# Altium footprint library Edge_logic_analyzer.PcbLib: 51 footprints (part 1 of 4)
Each footprint in its own frame and in the unit in brackets; x right, y up, seen from the top. Pads: shape width x height; smd on the part's side, far side on the other; paste and mask are expansions set on the pad; w line width, h text height; cw(c..) or ccw(c..) is an arc to the next point about the centre after c.
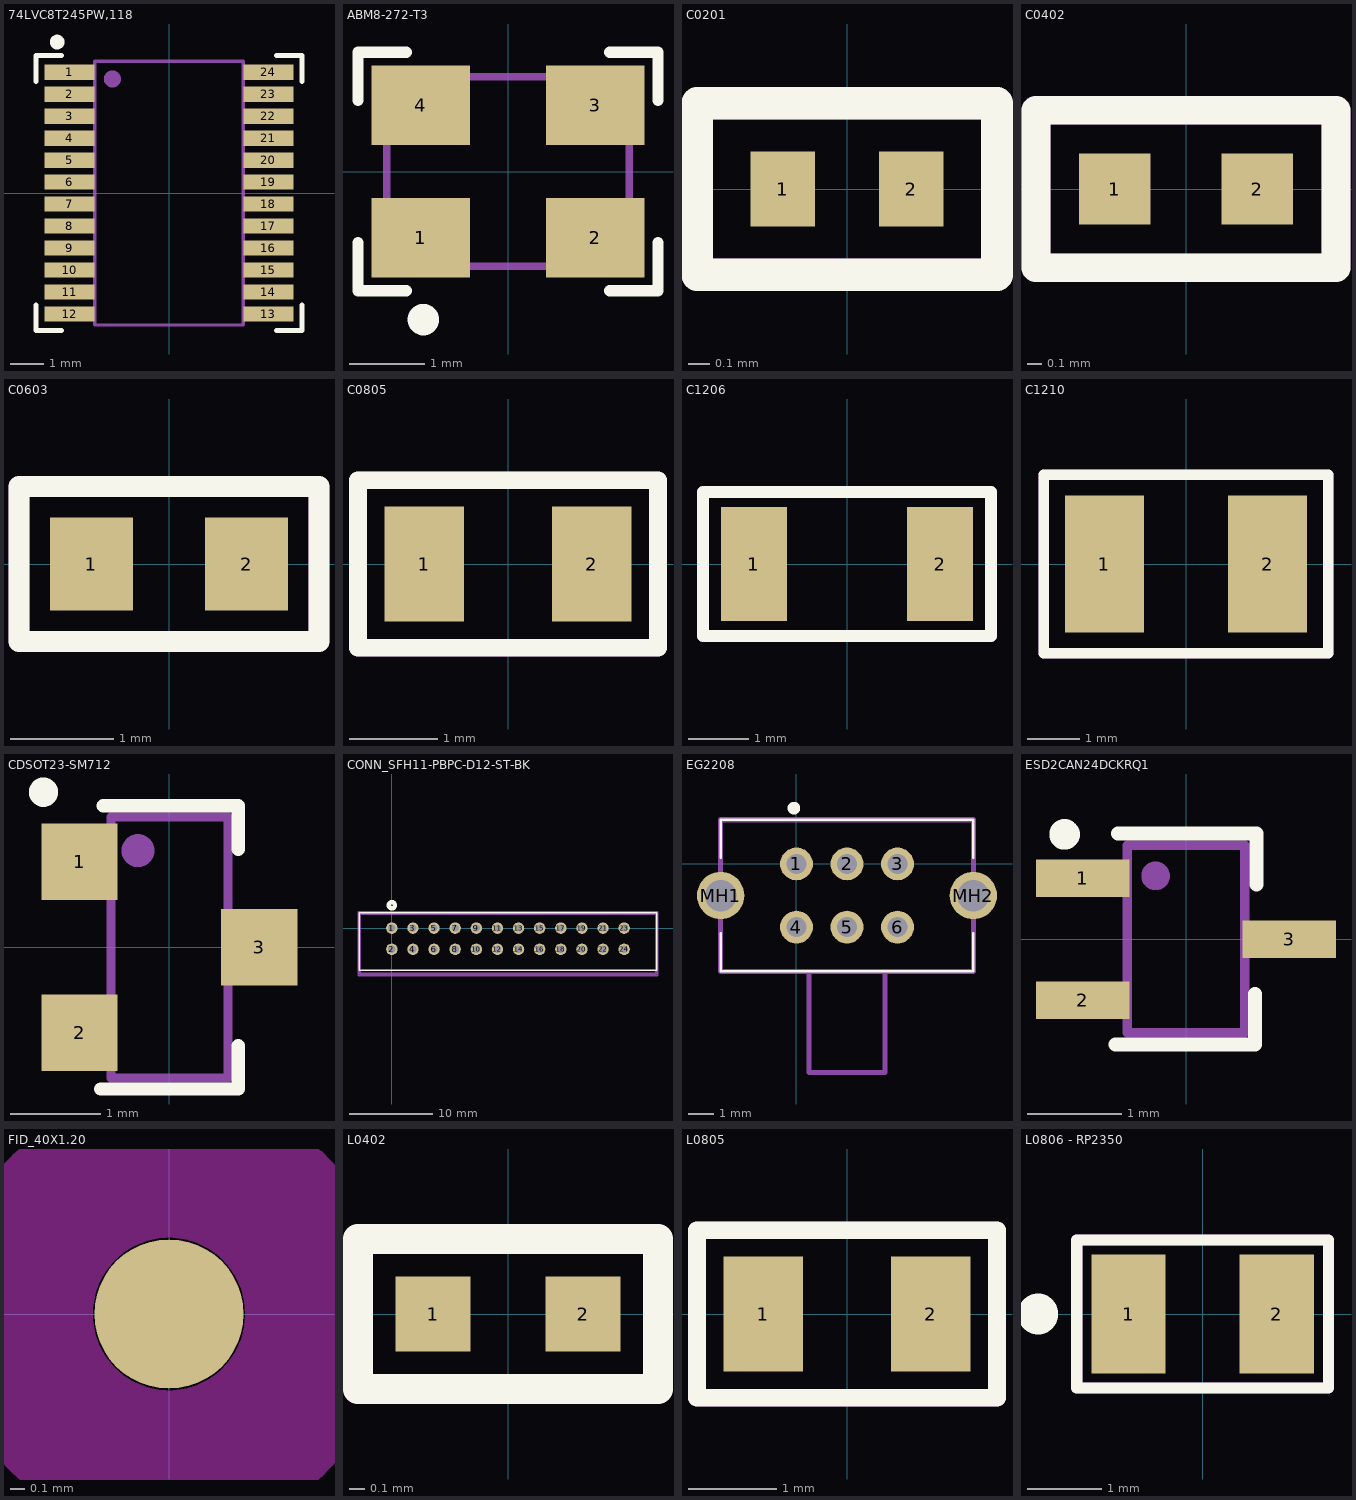
[diagram p0: the footprints below, top view; thin cyan lines are the x and y axes]

## 74LVC8T245PW,118 [mm]
pads (24):
  rect 1.475x0.45 smd mask+0.03: 1(-2.938,3.575) 2(-2.938,2.925) 3(-2.938,2.275) 4(-2.938,1.625) 5(-2.938,0.975) 6(-2.938,0.325) 7(-2.938,-0.325) 8(-2.938,-0.975) 9(-2.938,-1.625) 10(-2.938,-2.275) 11(-2.938,-2.925) 12(-2.938,-3.575) 13(2.938,-3.575) 14(2.938,-2.925) 15(2.938,-2.275) 16(2.938,-1.625) 17(2.938,-0.975) 18(2.938,-0.325) 19(2.938,0.325) 20(2.938,0.975) 21(2.938,1.625) 22(2.938,2.275) 23(2.938,2.925) 24(2.938,3.575)
Top Overlay:
  circle w0.254: c-3.306,4.466 r0.09
  lines w0.15: -3.937,-3.302 -3.937,-4.064 -3.175,-4.064 ; -3.937,3.302 -3.937,4.064 -3.175,4.064 ; 3.175,-4.064 3.937,-4.064 3.937,-3.302 ; 3.175,4.064 3.937,4.064 3.937,3.302
Mechanical 29:
  circle w0.254: c-1.675,3.375 r0.125
  lines w0.1: -2.2,-3.9 -2.2,3.9 2.2,3.9 2.2,-3.9 -2.2,-3.9
  text "'.Designator'" at -0.7,-0.5 h0.7
3D body "74LVC8T245PW,118.stp": height 1, standoff 0, extent -3.195,-3.883 3.226,3.917

## ABM8-272-T3 [mm]
pads (4):
  rect 1.3x1.05 smd: 1(-1.15,-0.875) 2(1.15,-0.875) 3(1.15,0.875) 4(-1.15,0.875)
Top Overlay:
  circle w0.254: c-1.118,-1.956 r0.08
  lines w0.15: -1.981,-0.94 -1.981,-1.575 -1.346,-1.575 ; -1.981,0.94 -1.981,1.575 -1.346,1.575 ; 1.346,-1.575 1.981,-1.575 1.981,-0.94 ; 1.346,1.575 1.981,1.575 1.981,0.94
Mechanical 29:
  circle w0.254: c-1.075,-0.775 r0.071
  lines w0.1: -1.6,-1.25 1.6,-1.25 1.6,1.25 -1.6,1.25 -1.6,-1.25
  text "'.Designator'" at -0.7,-0.5 h0.7
3D body "ABM8-272-T3.stp": height 0.75, standoff 0, extent -1.6,-1.25 1.6,1.25

## C0201 [mm]
pads (2):
  rect 0.3x0.35 smd mask+0.06: 1(-0.3,0) 2(0.3,0)
Top Overlay:
  lines w0.15: -0.7,-0.4 0.7,-0.4 0.7,0.4 -0.7,0.4 -0.7,-0.4
Mechanical 29:
  lines w0.15: -0.7,-0.4 -0.7,0.4 0.7,0.4 0.7,-0.4 -0.7,-0.4
  text "'.Designator'" at -0.4,-0.1 h0.2
3D body "C0201.step": height 0.3, standoff 0, extent -0.3,-0.15 0.3,0.15

## C0402 [mm]
pads (2):
  rect 0.5x0.5 smd: 1(-0.5,0) 2(0.5,0)
Top Overlay:
  lines w0.2: -1.05,-0.55 1.05,-0.55 1.05,0.55 -1.05,0.55 -1.05,-0.55
Mechanical 29:
  lines w0.2: -1.05,-0.55 -1.05,0.55 1.05,0.55 1.05,-0.55 -1.05,-0.55
  text "'.Designator'" at -0.717,-0.25 h0.5
3D body "C0402.step": height 0.51, standoff 0.01, extent -0.5,-0.25 0.5,0.25

## C0603 [mm]
pads (2):
  rect 0.8x0.9 smd: 1(-0.75,0) 2(0.75,0)
Top Overlay:
  lines w0.2: -1.45,-0.75 -1.45,0.75 1.45,0.75 1.45,-0.75 -1.45,-0.75
Mechanical 29:
  lines w0.2: -1.45,-0.75 -1.45,0.75 1.45,0.75 1.45,-0.75 -1.45,-0.75
  text "'.Designator'" at -0.7,-0.3 h0.6
3D body "C0603.step": height 0.81, standoff 0.01, extent -0.8,-0.43 0.8,0.43

## C0805 [mm]
pads (2):
  rect 0.9x1.3 smd: 1(-0.95,0) 2(0.95,0)
Top Overlay:
  lines w0.2: -1.7,-0.95 -1.7,0.95 1.7,0.95 1.7,-0.95 -1.7,-0.95
Mechanical 29:
  lines w0.2: -1.7,-0.95 1.7,-0.95 1.7,0.95 -1.7,0.95 -1.7,-0.95
  text "'.Designator'" at -1.2,-0.4 h0.85
3D body "C0805.step": height 1, standoff 0, extent -1,-0.625 1,0.625

## C1206 [mm] "Chip Capacitor, 2-Leads, Body 3.20x1.60mm, IPC Medium Density"
height 0.95
pads (2):
  rect 1.1x1.9 smd: 1(-1.55,0) 2(1.55,0)
Top Overlay:
  lines w0.2: -2.4,-1.2 2.4,-1.2 2.4,1.2 -2.4,1.2 -2.4,-1.2
Mechanical 29:
  lines w0.2: -2.4,-1.2 -2.4,1.2 2.4,1.2 2.4,-1.2 -2.4,-1.2
  text "'.Designator'" at -1.4,-0.5 h1
3D body "C1206.step": height 0.95, standoff 0, extent -1.7,-0.9 1.7,0.9

## C1210 [mm]
pads (2):
  rect 1.5x2.6 smd: 1(-1.55,0) 2(1.55,0)
Top Overlay:
  lines w0.2: -2.7,-1.7 2.7,-1.7 2.7,1.7 -2.7,1.7 -2.7,-1.7
Mechanical 29:
  lines w0.2: -2.7,-1.7 -2.7,1.7 2.7,1.7 2.7,-1.7 -2.7,-1.7
  text "'.Designator'" at -0.94,-0.127 h1.2
3D body "C1210.step": height 1.8, standoff 0, extent -1.6,-1.25 1.6,1.25

## CDSOT23-SM712 [mm]
pads (3):
  rect 0.85x0.85 smd: 1(-1,0.95) 2(-1,-0.95) 3(1,0)
Top Overlay:
  circle w0.254: c-1.4,1.725 r0.035
  lines w0.15: -0.738,-1.575 -0.763,-1.575 0.735,-1.575 ; -0.737,1.575 0.762,1.575 ; 0.737,1.575 0.762,1.575 ; 0.762,-1.575 0.762,-1.092 ; 0.762,1.092 0.762,1.575
Mechanical 29:
  circle w0.254: c-0.35,1.075 r0.056
  lines w0.1: -0.65,-1.45 0.65,-1.45 0.65,1.45 -0.65,1.45 -0.65,-1.45
  text "'.Designator'" at -0.7,-0.457 h0.7
3D body "CDSOT23-SM712.stp": height 1.17, standoff 0, extent -1.148,-1.45 1.148,1.45

## CONN_SFH11-PBPC-D12-ST-BK [mil]
pads (24):
  round 54 hole 34 paste-99999 mask+0: 1(0,0) 2(0,-100) 3(100,0) 4(100,-100) 5(200,0) 6(200,-100) 7(300,0) 8(300,-100) 9(400,0) 10(400,-100) 11(500,0) 12(500,-100) 13(600,0) 14(600,-100) 15(700,0) 16(700,-100) 17(800,0) 18(800,-100) 19(900,0) 20(900,-100) 21(1000,0) 22(1000,-100) 23(1100,0) 24(1100,-100)
Top Overlay:
  circle w20: c0,108.27 r15
  lines w6: -155,-198.82 -155,73 1255,73 1255,-198.82 ; -155,-198.36 1255,-198.36
Mechanical 15:
  lines w6: -160,-226 -160,78 1260,78 1260,-226 -160,-226
Mechanical 29:
  circle w20: c0,0 r15
  lines w9.84: -150,-216 1250,-216 1250,68 -150,68 -150,-216
  text ".Designator" at 412.5,-75 h59.06
3D body "SFH11-PBPC-D12-ST-BK.STEP": height 335, standoff -126, extent -147.64,-205.91 1252.36,70.09

## EG2208 [mm]
pads (8):
  round 1.3 hole 0.8: 1(0,0) 2(2,0) 3(4,0) 4(0,-2.5) 5(2,-2.5) 6(4,-2.5)
  round 1.875 hole 1.25: MH1(-3,-1.25) MH2(7,-1.25)
Top Overlay:
  lines w0.1: 0.5,-4.25 3.5,-4.25 ; -3,-4.25 -3,-2.75 -3,-4.25 ; -3,-4.25 7,-4.25 ; -3,-4.25 7,-4.25 ; -3,1.75 -3,0.25 -3,1.75 ; -3,1.75 7,1.75 ; -3,1.75 7,1.75 ; 7,-4.25 7,-2.75 7,-4.25 ; 7,1.75 7,0.25 7,1.75
  lines w0.3: -0.102,2.11 ccw(c-0.102,2.21) -0.102,2.31 ; -0.102,2.11 cw(c-0.102,2.21) -0.102,2.31 ; -0.102,2.11 ccw(c-0.102,2.21) -0.102,2.31
Mechanical 29:
  circle w0.4: c0,0 r0.2
  lines w0.2: -3,-4.25 7,-4.25 7,1.75 -3,1.75 -3,-4.25 ; 0.5,-8.25 0.5,-4.25 3.5,-4.25 3.5,-8.25 0.5,-8.25
  text "'.Designator'" at 1.225,-1.775 h0.7
3D body "EG2208.stp": height 4.94, standoff -3.06, extent -3.15,-8.2 7.15,1.8

## ESD2CAN24DCKRQ1 [mm]
pads (3):
  rect 1x0.4 smd mask+0.06: 1(-1.1,0.65) 2(-1.1,-0.65) 3(1.1,0)
Top Overlay:
  circle w0.254: c-1.295,1.118 r0.036
  lines w0.15: -0.75,-1.125 0.725,-1.125 ; -0.725,1.125 0.75,1.125 0.75,0.584 ; 0.737,-1.125 0.737,-0.584
Mechanical 29:
  circle w0.254: c-0.325,0.675 r0.025
  lines w0.1: -0.625,-1 -0.625,1 0.625,1 0.625,-1 -0.625,-1
  text "'.Designator'" at -0.7,-0.457 h0.7
3D body "ESD2CAN24DCKRQ1.stp": height 1, standoff 0, extent -1.05,-1 1.05,1

## FID_40X1.20 [mil]
pads (1):
  round 40 smd paste-40 mask+40: ""(0,0)
Top Layer keep-out:
  circle w39.37: c0,0 r40.16

## L0402 [mm]
pads (2):
  rect 0.5x0.5 smd: 1(-0.5,0) 2(0.5,0)
Top Overlay:
  lines w0.2: -1,-0.5 1,-0.5 1,0.5 -1,0.5 -1,-0.5
Mechanical 29:
  lines w0.2: -1,-0.5 -1,0.5 1,0.5 1,-0.5 -1,-0.5
  text "'.Designator'" at -0.4,0 h0.5
3D body "L0805.step": height 0.51, standoff 0.01, extent -0.5,-0.3 0.5,0.3

## L0805 [mm]
pads (2):
  rect 0.9x1.3 smd: 1(-0.95,0) 2(0.95,0)
Top Overlay:
  lines w0.2: -1.7,-0.95 -1.7,0.95 1.7,0.95 1.7,-0.95 -1.7,-0.95
Mechanical 29:
  lines w0.2: -1.7,-0.95 1.7,-0.95 1.7,0.95 -1.7,0.95 -1.7,-0.95
  text "'.Designator'" at -0.6,-0.1 h0.85
3D body "L0805.step": height 1.05, standoff 0, extent -1,-0.625 1,0.625

## L0806 - RP2350 [mm]
pads (2):
  rect 1x1.6 smd: 1(-1,0) 2(1,0)
Top Overlay:
  circle w0.5: c-2.225,0 r0.025
  lines w0.15: -1.7,-1 -1.7,1 1.7,1 1.7,-1 -1.7,-1
Mechanical 29:
  circle w0.254: c-1.1,-0.4 r0.141
  lines w0.15: -1.7,-1 -1.7,1 1.7,1 1.7,-1 -1.7,-1
  text "'.Designator'" at -0.6,-0.1 h0.85
3D body "AOTA-B201610S3R3-101-T.stp": height 1, standoff 0, extent -1,-0.8 1,0.8